# Altium footprint library KF-5.08 接线端子.PcbLib: 43 footprints (part 3 of 3)
Each footprint in its own frame and in the unit in brackets; x right, y up, seen from the top. Pads: shape width x height; smd on the part's side, far side on the other; paste and mask are expansions set on the pad; w line width, h text height; cw(c..) or ccw(c..) is an arc to the next point about the centre after c.
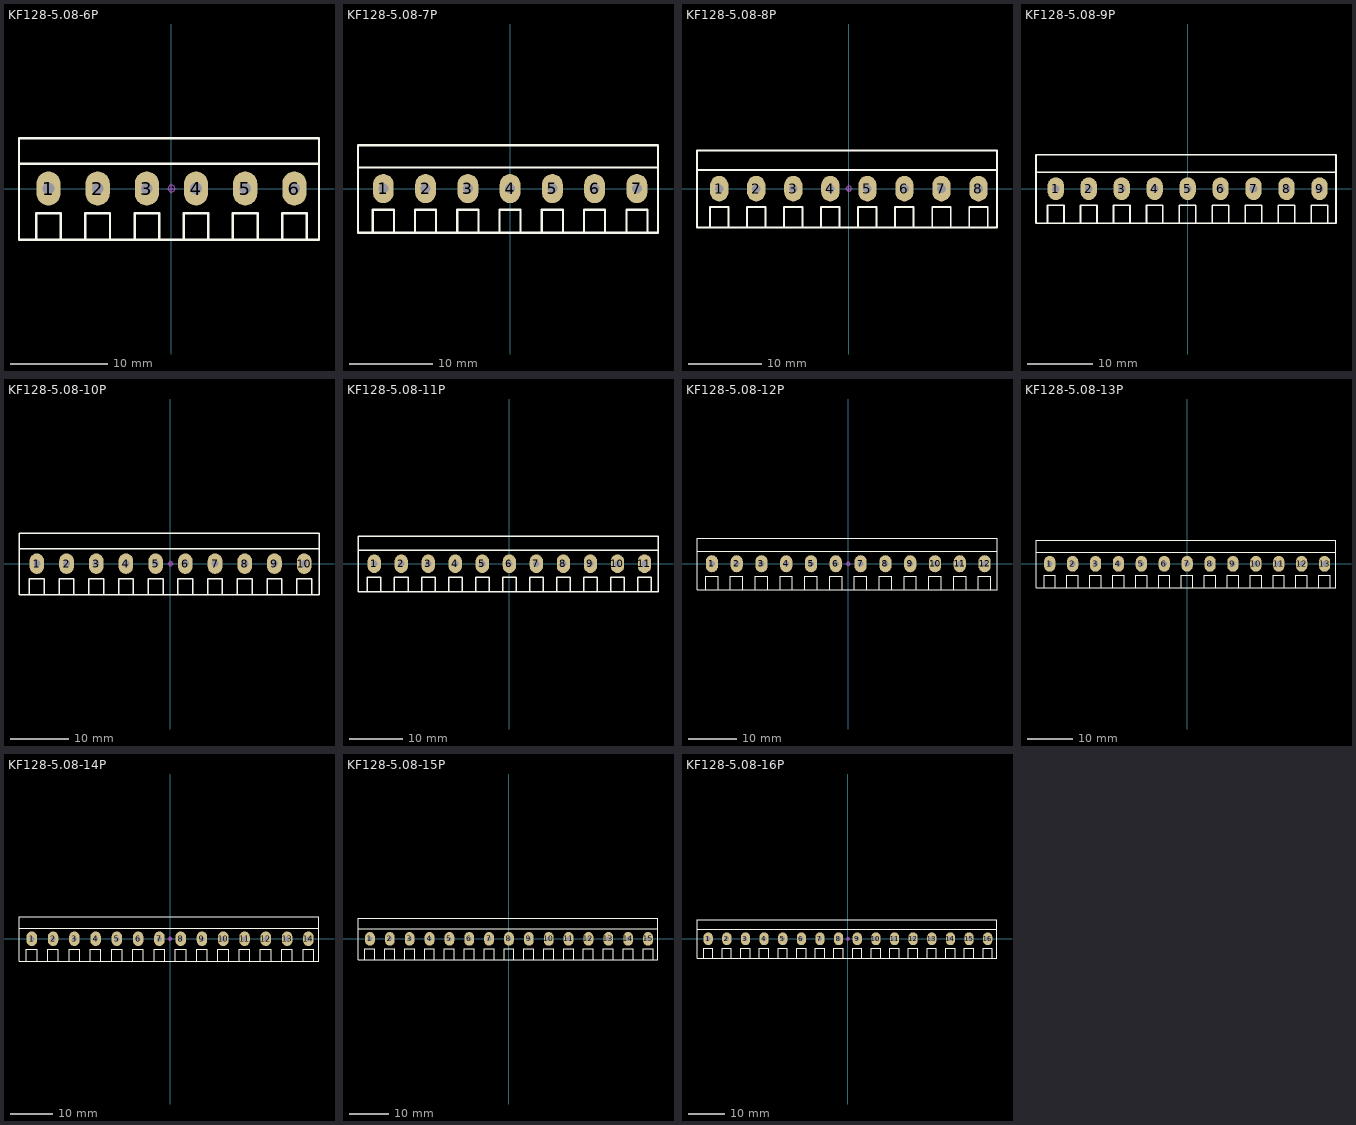
[diagram p2: the footprints below, top view; thin cyan lines are the x and y axes]

## KF128-5.08-6P [mm] "螺钉式接线端子，脚距5.08mm"
pads (6):
  oval 2.5x3.5 hole 1.2: 1(-12.7,0) 2(-7.62,0) 3(-2.54,0) 4(2.54,0) 5(7.62,0) 6(12.7,0)
Top Overlay:
  lines w0.254: -15.748,2.54 15.24,2.54 ; -13.97,-5.309 -13.97,-2.54 -11.43,-2.54 -11.43,-5.309 ; -8.89,-5.309 -8.89,-2.54 -6.35,-2.54 -6.35,-5.309 ; -3.81,-5.309 -3.81,-2.54 -1.27,-2.54 -1.27,-5.309 ; 1.27,-5.309 1.27,-2.54 3.81,-2.54 3.81,-5.309 ; 6.35,-5.309 6.35,-2.54 8.89,-2.54 8.89,-5.309 ; 11.43,-5.309 11.43,-2.54 13.97,-2.54 13.97,-5.309 ; -15.748,-5.309 15.24,-5.309 15.24,5.207 -15.748,5.207 -15.748,-5.309
Mechanical 15:
  circle w0.05: c0,0 r0.35
  lines w0.05: -0.5,0 0.5,0 ; 0,-0.5 0,0.5
3D body "KF128-5.08.STEP": height 14.15, standoff -3.95, extent 4.58,-5.3 10.16,5.2
3D body "KF128-5.08.STEP": height 14.15, standoff -3.95, extent -0.5,-5.3 5.08,5.2
3D body "KF128-5.08.STEP": height 14.15, standoff -3.95, extent -10.66,-5.3 -5.08,5.2
3D body "KF128-5.08.STEP": height 14.15, standoff -3.95, extent -15.74,-5.3 -10.16,5.2
3D body "KF128-5.08.STEP": height 14.15, standoff -3.95, extent -5.58,-5.3 0,5.2
3D body "KF128-5.08.STEP": height 14.15, standoff -3.95, extent 9.66,-5.3 15.24,5.2

## KF128-5.08-7P [mm] "螺钉式接线端子，脚距5.08mm"
pads (7):
  oval 2.5x3.5 hole 1.2: 1(-15.24,0) 2(-10.16,0) 3(-5.08,0) 4(0,0) 5(5.08,0) 6(10.16,0) 7(15.24,0)
Top Overlay:
  lines w0.254: -18.288,2.54 17.78,2.54 ; -16.51,-5.309 -16.51,-2.54 -13.97,-2.54 -13.97,-5.309 ; -11.43,-5.309 -11.43,-2.54 -8.89,-2.54 -8.89,-5.309 ; -6.35,-5.309 -6.35,-2.54 -3.81,-2.54 -3.81,-5.309 ; -1.27,-5.309 -1.27,-2.54 1.27,-2.54 1.27,-5.309 ; 3.81,-5.309 3.81,-2.54 6.35,-2.54 6.35,-5.309 ; 8.89,-5.309 8.89,-2.54 11.43,-2.54 11.43,-5.309 ; 13.97,-5.309 13.97,-2.54 16.51,-2.54 16.51,-5.309 ; -18.288,-5.309 -18.288,5.207 17.78,5.207 17.78,-5.309 -18.288,-5.309
Mechanical 15:
  circle w0.05: c0,0 r0.35
  lines w0.05: -0.5,0 0.5,0 ; 0,-0.5 0,0.5
3D body "KF128-5.08.STEP": height 14.15, standoff -3.95, extent 7.12,-5.3 12.7,5.2
3D body "KF128-5.08.STEP": height 14.15, standoff -3.95, extent -8.12,-5.3 -2.54,5.2
3D body "KF128-5.08.STEP": height 14.15, standoff -3.95, extent -18.28,-5.3 -12.7,5.2
3D body "KF128-5.08.STEP": height 14.15, standoff -3.95, extent -13.2,-5.3 -7.62,5.2
3D body "KF128-5.08.STEP": height 14.15, standoff -3.95, extent -3.04,-5.3 2.54,5.2
3D body "KF128-5.08.STEP": height 14.15, standoff -3.95, extent 2.04,-5.3 7.62,5.2
3D body "KF128-5.08.STEP": height 14.15, standoff -3.95, extent 12.2,-5.3 17.78,5.2

## KF128-5.08-8P [mm] "螺钉式接线端子，脚距5.08mm"
pads (8):
  oval 2.5x3.5 hole 1.2: 1(-17.78,0) 2(-12.7,0) 3(-7.62,0) 4(-2.54,0) 5(2.54,0) 6(7.62,0) 7(12.7,0) 8(17.78,0)
Top Overlay:
  lines w0.254: -20.828,2.54 20.32,2.54 ; -19.05,-5.309 -19.05,-2.54 -16.51,-2.54 -16.51,-5.309 ; -13.97,-5.309 -13.97,-2.54 -11.43,-2.54 -11.43,-5.309 ; -8.89,-5.309 -8.89,-2.54 -6.35,-2.54 -6.35,-5.309 ; -3.81,-5.309 -3.81,-2.54 -1.27,-2.54 -1.27,-5.309 ; 1.27,-5.309 1.27,-2.54 3.81,-2.54 3.81,-5.309 ; 6.35,-5.309 6.35,-2.54 8.89,-2.54 8.89,-5.309 ; 11.43,-5.309 11.43,-2.54 13.97,-2.54 13.97,-5.309 ; 16.51,-5.309 16.51,-2.54 19.05,-2.54 19.05,-5.309 ; -20.828,-5.309 -20.828,5.207 20.32,5.207 20.32,-5.309 -20.828,-5.309
Mechanical 15:
  circle w0.05: c0,0 r0.35
  lines w0.05: -0.5,0 0.5,0 ; 0,-0.5 0,0.5
3D body "KF128-5.08.STEP": height 14.15, standoff -3.95, extent 14.74,-5.3 20.32,5.2
3D body "KF128-5.08.STEP": height 14.15, standoff -3.95, extent 4.58,-5.3 10.16,5.2
3D body "KF128-5.08.STEP": height 14.15, standoff -3.95, extent -10.66,-5.3 -5.08,5.2
3D body "KF128-5.08.STEP": height 14.15, standoff -3.95, extent -20.82,-5.3 -15.24,5.2
3D body "KF128-5.08.STEP": height 14.15, standoff -3.95, extent -15.74,-5.3 -10.16,5.2
3D body "KF128-5.08.STEP": height 14.15, standoff -3.95, extent -5.58,-5.3 0,5.2
3D body "KF128-5.08.STEP": height 14.15, standoff -3.95, extent -0.5,-5.3 5.08,5.2
3D body "KF128-5.08.STEP": height 14.15, standoff -3.95, extent 9.66,-5.3 15.24,5.2

## KF128-5.08-9P [mm] "螺钉式接线端子，脚距5.08mm"
pads (9):
  oval 2.5x3.5 hole 1.2: 1(-20.32,0) 2(-15.24,0) 3(-10.16,0) 4(-5.08,0) 5(0,0) 6(5.08,0) 7(10.16,0) 8(15.24,0) 9(20.32,0)
Top Overlay:
  lines w0.254: -23.368,2.54 22.86,2.54 ; -21.59,-5.309 -21.59,-2.54 -19.05,-2.54 -19.05,-5.309 ; -16.51,-5.309 -16.51,-2.54 -13.97,-2.54 -13.97,-5.309 ; -11.43,-5.309 -11.43,-2.54 -8.89,-2.54 -8.89,-5.309 ; -6.35,-5.309 -6.35,-2.54 -3.81,-2.54 -3.81,-5.309 ; -1.27,-5.309 -1.27,-2.54 1.27,-2.54 1.27,-5.309 ; 3.81,-5.309 3.81,-2.54 6.35,-2.54 6.35,-5.309 ; 8.89,-5.309 8.89,-2.54 11.43,-2.54 11.43,-5.309 ; 13.97,-5.309 13.97,-2.54 16.51,-2.54 16.51,-5.309 ; 19.05,-5.309 19.05,-2.54 21.59,-2.54 21.59,-5.309 ; -23.368,-5.309 22.86,-5.309 22.86,5.207 -23.368,5.207 -23.368,-5.309
Mechanical 15:
  circle w0.05: c0,0 r0.35
  lines w0.05: -0.5,0 0.5,0 ; 0,-0.5 0,0.5
3D body "KF128-5.08.STEP": height 14.15, standoff -3.95, extent 17.28,-5.3 22.86,5.2
3D body "KF128-5.08.STEP": height 14.15, standoff -3.95, extent 7.12,-5.3 12.7,5.2
3D body "KF128-5.08.STEP": height 14.15, standoff -3.95, extent -3.04,-5.3 2.54,5.2
3D body "KF128-5.08.STEP": height 14.15, standoff -3.95, extent -8.12,-5.3 -2.54,5.2
3D body "KF128-5.08.STEP": height 14.15, standoff -3.95, extent -18.28,-5.3 -12.7,5.2
3D body "KF128-5.08.STEP": height 14.15, standoff -3.95, extent -23.36,-5.3 -17.78,5.2
3D body "KF128-5.08.STEP": height 14.15, standoff -3.95, extent -13.2,-5.3 -7.62,5.2
3D body "KF128-5.08.STEP": height 14.15, standoff -3.95, extent 2.04,-5.3 7.62,5.2
3D body "KF128-5.08.STEP": height 14.15, standoff -3.95, extent 12.2,-5.3 17.78,5.2

## KF128-5.08-10P [mm] "螺钉式接线端子，脚距5.08mm"
pads (10):
  oval 2.5x3.5 hole 1.2: 1(-22.86,0) 2(-17.78,0) 3(-12.7,0) 4(-7.62,0) 5(-2.54,0) 6(2.54,0) 7(7.62,0) 8(12.7,0) 9(17.78,0) 10(22.86,0)
Top Overlay:
  lines w0.254: -25.908,2.54 25.4,2.54 ; -24.13,-5.309 -24.13,-2.54 -21.59,-2.54 -21.59,-5.309 ; -19.05,-5.309 -19.05,-2.54 -16.51,-2.54 -16.51,-5.309 ; -13.97,-5.309 -13.97,-2.54 -11.43,-2.54 -11.43,-5.309 ; -8.89,-5.309 -8.89,-2.54 -6.35,-2.54 -6.35,-5.309 ; -3.81,-5.309 -3.81,-2.54 -1.27,-2.54 -1.27,-5.309 ; 1.27,-5.309 1.27,-2.54 3.81,-2.54 3.81,-5.309 ; 6.35,-5.309 6.35,-2.54 8.89,-2.54 8.89,-5.309 ; 11.43,-5.309 11.43,-2.54 13.97,-2.54 13.97,-5.309 ; 16.51,-5.309 16.51,-2.54 19.05,-2.54 19.05,-5.309 ; 21.59,-5.309 21.59,-2.54 24.13,-2.54 24.13,-5.309 ; -25.908,-5.309 25.4,-5.309 25.4,5.207 -25.908,5.207 -25.908,-5.309
Mechanical 15:
  circle w0.05: c0,0 r0.35
  lines w0.05: -0.5,0 0.5,0 ; 0,-0.5 0,0.5
3D body "KF128-5.08.STEP": height 14.15, standoff -3.95, extent 14.74,-5.3 20.32,5.2
3D body "KF128-5.08.STEP": height 14.15, standoff -3.95, extent 4.58,-5.3 10.16,5.2
3D body "KF128-5.08.STEP": height 14.15, standoff -3.95, extent -5.58,-5.3 0,5.2
3D body "KF128-5.08.STEP": height 14.15, standoff -3.95, extent -10.66,-5.3 -5.08,5.2
3D body "KF128-5.08.STEP": height 14.15, standoff -3.95, extent -20.82,-5.3 -15.24,5.2
3D body "KF128-5.08.STEP": height 14.15, standoff -3.95, extent -25.9,-5.3 -20.32,5.2
3D body "KF128-5.08.STEP": height 14.15, standoff -3.95, extent -15.74,-5.3 -10.16,5.2
3D body "KF128-5.08.STEP": height 14.15, standoff -3.95, extent -0.5,-5.3 5.08,5.2
3D body "KF128-5.08.STEP": height 14.15, standoff -3.95, extent 9.66,-5.3 15.24,5.2
3D body "KF128-5.08.STEP": height 14.15, standoff -3.95, extent 19.82,-5.3 25.4,5.2

## KF128-5.08-11P [mm] "螺钉式接线端子，脚距5.08mm"
pads (11):
  oval 2.5x3.5 hole 1.2: 1(-25.4,0) 2(-20.32,0) 3(-15.24,0) 4(-10.16,0) 5(-5.08,0) 6(0,0) 7(5.08,0) 8(10.16,0) 9(15.24,0) 10(20.32,0) 11(25.4,0)
Top Overlay:
  lines w0.254: -28.448,2.54 27.94,2.54 ; -26.67,-5.309 -26.67,-2.54 -24.13,-2.54 -24.13,-5.309 ; -21.59,-5.309 -21.59,-2.54 -19.05,-2.54 -19.05,-5.309 ; -16.51,-5.309 -16.51,-2.54 -13.97,-2.54 -13.97,-5.309 ; -11.43,-5.309 -11.43,-2.54 -8.89,-2.54 -8.89,-5.309 ; -6.35,-5.309 -6.35,-2.54 -3.81,-2.54 -3.81,-5.309 ; -1.27,-5.309 -1.27,-2.54 1.27,-2.54 1.27,-5.309 ; 3.81,-5.309 3.81,-2.54 6.35,-2.54 6.35,-5.309 ; 8.89,-5.309 8.89,-2.54 11.43,-2.54 11.43,-5.309 ; 13.97,-5.309 13.97,-2.54 16.51,-2.54 16.51,-5.309 ; 19.05,-5.309 19.05,-2.54 21.59,-2.54 21.59,-5.309 ; 24.13,-5.309 24.13,-2.54 26.67,-2.54 26.67,-5.309 ; -28.448,-5.309 -28.448,5.207 27.94,5.207 27.94,-5.309 -28.448,-5.309
Mechanical 15:
  circle w0.05: c0,0 r0.35
  lines w0.05: -0.5,0 0.5,0 ; 0,-0.5 0,0.5
3D body "KF128-5.08.STEP": height 14.15, standoff -3.95, extent 17.28,-5.3 22.86,5.2
3D body "KF128-5.08.STEP": height 14.15, standoff -3.95, extent 7.12,-5.3 12.7,5.2
3D body "KF128-5.08.STEP": height 14.15, standoff -3.95, extent -3.04,-5.3 2.54,5.2
3D body "KF128-5.08.STEP": height 14.15, standoff -3.95, extent -18.28,-5.3 -12.7,5.2
3D body "KF128-5.08.STEP": height 14.15, standoff -3.95, extent -28.44,-5.3 -22.86,5.2
3D body "KF128-5.08.STEP": height 14.15, standoff -3.95, extent -23.36,-5.3 -17.78,5.2
3D body "KF128-5.08.STEP": height 14.15, standoff -3.95, extent -13.2,-5.3 -7.62,5.2
3D body "KF128-5.08.STEP": height 14.15, standoff -3.95, extent -8.12,-5.3 -2.54,5.2
3D body "KF128-5.08.STEP": height 14.15, standoff -3.95, extent 2.04,-5.3 7.62,5.2
3D body "KF128-5.08.STEP": height 14.15, standoff -3.95, extent 12.2,-5.3 17.78,5.2
3D body "KF128-5.08.STEP": height 14.15, standoff -3.95, extent 22.36,-5.3 27.94,5.2

## KF128-5.08-12P [mm] "螺钉式接线端子，脚距5.08mm"
pads (12):
  oval 2.5x3.5 hole 1.2: 1(-27.94,0) 2(-22.86,0) 3(-17.78,0) 4(-12.7,0) 5(-7.62,0) 6(-2.54,0) 7(2.54,0) 8(7.62,0) 9(12.7,0) 10(17.78,0) 11(22.86,0) 12(27.94,0)
Top Overlay:
  lines w0.254: -30.988,2.54 30.48,2.54 ; -29.21,-5.309 -29.21,-2.54 -26.67,-2.54 -26.67,-5.309 ; -24.13,-5.309 -24.13,-2.54 -21.59,-2.54 -21.59,-5.309 ; -19.05,-5.309 -19.05,-2.54 -16.51,-2.54 -16.51,-5.309 ; -13.97,-5.309 -13.97,-2.54 -11.43,-2.54 -11.43,-5.309 ; -8.89,-5.309 -8.89,-2.54 -6.35,-2.54 -6.35,-5.309 ; -3.81,-5.309 -3.81,-2.54 -1.27,-2.54 -1.27,-5.309 ; 1.27,-5.309 1.27,-2.54 3.81,-2.54 3.81,-5.309 ; 6.35,-5.309 6.35,-2.54 8.89,-2.54 8.89,-5.309 ; 11.43,-5.309 11.43,-2.54 13.97,-2.54 13.97,-5.309 ; 16.51,-5.309 16.51,-2.54 19.05,-2.54 19.05,-5.309 ; 21.59,-5.309 21.59,-2.54 24.13,-2.54 24.13,-5.309 ; 26.67,-5.309 26.67,-2.54 29.21,-2.54 29.21,-5.309 ; -30.988,-5.309 -30.988,5.207 30.48,5.207 30.48,-5.309 -30.988,-5.309
Mechanical 15:
  circle w0.05: c0,0 r0.35
  lines w0.05: -0.5,0 0.5,0 ; 0,-0.5 0,0.5
3D body "KF128-5.08.STEP": height 14.15, standoff -3.95, extent 24.9,-5.3 30.48,5.2
3D body "KF128-5.08.STEP": height 14.15, standoff -3.95, extent 14.74,-5.3 20.32,5.2
3D body "KF128-5.08.STEP": height 14.15, standoff -3.95, extent 4.58,-5.3 10.16,5.2
3D body "KF128-5.08.STEP": height 14.15, standoff -3.95, extent -5.58,-5.3 0,5.2
3D body "KF128-5.08.STEP": height 14.15, standoff -3.95, extent -20.82,-5.3 -15.24,5.2
3D body "KF128-5.08.STEP": height 14.15, standoff -3.95, extent -30.98,-5.3 -25.4,5.2
3D body "KF128-5.08.STEP": height 14.15, standoff -3.95, extent -25.9,-5.3 -20.32,5.2
3D body "KF128-5.08.STEP": height 14.15, standoff -3.95, extent -15.74,-5.3 -10.16,5.2
3D body "KF128-5.08.STEP": height 14.15, standoff -3.95, extent -10.66,-5.3 -5.08,5.2
3D body "KF128-5.08.STEP": height 14.15, standoff -3.95, extent -0.5,-5.3 5.08,5.2
3D body "KF128-5.08.STEP": height 14.15, standoff -3.95, extent 9.66,-5.3 15.24,5.2
3D body "KF128-5.08.STEP": height 14.15, standoff -3.95, extent 19.82,-5.3 25.4,5.2

## KF128-5.08-13P [mm] "螺钉式接线端子，脚距5.08mm"
pads (13):
  oval 2.5x3.5 hole 1.2: 1(-30.48,0) 2(-25.4,0) 3(-20.32,0) 4(-15.24,0) 5(-10.16,0) 6(-5.08,0) 7(0,0) 8(5.08,0) 9(10.16,0) 10(15.24,0) 11(20.32,0) 12(25.4,0) 13(30.48,0)
Top Overlay:
  lines w0.254: -33.528,2.54 33.02,2.54 ; -31.75,-5.309 -31.75,-2.54 -29.21,-2.54 -29.21,-5.309 ; -26.67,-5.309 -26.67,-2.54 -24.13,-2.54 -24.13,-5.309 ; -21.59,-5.309 -21.59,-2.54 -19.05,-2.54 -19.05,-5.309 ; -16.51,-5.309 -16.51,-2.54 -13.97,-2.54 -13.97,-5.309 ; -11.43,-5.309 -11.43,-2.54 -8.89,-2.54 -8.89,-5.309 ; -6.35,-5.309 -6.35,-2.54 -3.81,-2.54 -3.81,-5.309 ; -1.27,-5.309 -1.27,-2.54 1.27,-2.54 1.27,-5.309 ; 3.81,-5.309 3.81,-2.54 6.35,-2.54 6.35,-5.309 ; 8.89,-5.309 8.89,-2.54 11.43,-2.54 11.43,-5.309 ; 13.97,-5.309 13.97,-2.54 16.51,-2.54 16.51,-5.309 ; 19.05,-5.309 19.05,-2.54 21.59,-2.54 21.59,-5.309 ; 24.13,-5.309 24.13,-2.54 26.67,-2.54 26.67,-5.309 ; 29.21,-5.309 29.21,-2.54 31.75,-2.54 31.75,-5.309 ; -33.528,-5.309 -33.528,5.207 33.02,5.207 33.02,-5.309 -33.528,-5.309
Mechanical 15:
  circle w0.05: c0,0 r0.35
  lines w0.05: -0.5,0 0.5,0 ; 0,-0.5 0,0.5
3D body "KF128-5.08.STEP": height 14.15, standoff -3.95, extent 22.36,-5.3 27.94,5.2
3D body "KF128-5.08.STEP": height 14.15, standoff -3.95, extent 12.2,-5.3 17.78,5.2
3D body "KF128-5.08.STEP": height 14.15, standoff -3.95, extent 2.04,-5.3 7.62,5.2
3D body "KF128-5.08.STEP": height 14.15, standoff -3.95, extent -8.12,-5.3 -2.54,5.2
3D body "KF128-5.08.STEP": height 14.15, standoff -3.95, extent -23.36,-5.3 -17.78,5.2
3D body "KF128-5.08.STEP": height 14.15, standoff -3.95, extent -33.52,-5.3 -27.94,5.2
3D body "KF128-5.08.STEP": height 14.15, standoff -3.95, extent -28.44,-5.3 -22.86,5.2
3D body "KF128-5.08.STEP": height 14.15, standoff -3.95, extent -18.28,-5.3 -12.7,5.2
3D body "KF128-5.08.STEP": height 14.15, standoff -3.95, extent -13.2,-5.3 -7.62,5.2
3D body "KF128-5.08.STEP": height 14.15, standoff -3.95, extent -3.04,-5.3 2.54,5.2
3D body "KF128-5.08.STEP": height 14.15, standoff -3.95, extent 7.12,-5.3 12.7,5.2
3D body "KF128-5.08.STEP": height 14.15, standoff -3.95, extent 17.28,-5.3 22.86,5.2
3D body "KF128-5.08.STEP": height 14.15, standoff -3.95, extent 27.44,-5.3 33.02,5.2

## KF128-5.08-14P [mm] "螺钉式接线端子，脚距5.08mm"
pads (14):
  oval 2.5x3.5 hole 1.2: 1(-33.02,0) 2(-27.94,0) 3(-22.86,0) 4(-17.78,0) 5(-12.7,0) 6(-7.62,0) 7(-2.54,0) 8(2.54,0) 9(7.62,0) 10(12.7,0) 11(17.78,0) 12(22.86,0) 13(27.94,0) 14(33.02,0)
Top Overlay:
  lines w0.254: -36.068,2.54 35.56,2.54 ; -34.29,-5.309 -34.29,-2.54 -31.75,-2.54 -31.75,-5.309 ; -29.21,-5.309 -29.21,-2.54 -26.67,-2.54 -26.67,-5.309 ; -24.13,-5.309 -24.13,-2.54 -21.59,-2.54 -21.59,-5.309 ; -19.05,-5.309 -19.05,-2.54 -16.51,-2.54 -16.51,-5.309 ; -13.97,-5.309 -13.97,-2.54 -11.43,-2.54 -11.43,-5.309 ; -8.89,-5.309 -8.89,-2.54 -6.35,-2.54 -6.35,-5.309 ; -3.81,-5.309 -3.81,-2.54 -1.27,-2.54 -1.27,-5.309 ; 1.27,-5.309 1.27,-2.54 3.81,-2.54 3.81,-5.309 ; 6.35,-5.309 6.35,-2.54 8.89,-2.54 8.89,-5.309 ; 11.43,-5.309 11.43,-2.54 13.97,-2.54 13.97,-5.309 ; 16.51,-5.309 16.51,-2.54 19.05,-2.54 19.05,-5.309 ; 21.59,-5.309 21.59,-2.54 24.13,-2.54 24.13,-5.309 ; 26.67,-5.309 26.67,-2.54 29.21,-2.54 29.21,-5.309 ; 31.75,-5.309 31.75,-2.54 34.29,-2.54 34.29,-5.309 ; -36.068,-5.309 35.56,-5.309 35.56,5.207 -36.068,5.207 -36.068,-5.309
Mechanical 15:
  circle w0.05: c0,0 r0.35
  lines w0.05: -0.5,0 0.5,0 ; 0,-0.5 0,0.5
3D body "KF128-5.08.STEP": height 14.15, standoff -3.95, extent 24.9,-5.3 30.48,5.2
3D body "KF128-5.08.STEP": height 14.15, standoff -3.95, extent 14.74,-5.3 20.32,5.2
3D body "KF128-5.08.STEP": height 14.15, standoff -3.95, extent 4.58,-5.3 10.16,5.2
3D body "KF128-5.08.STEP": height 14.15, standoff -3.95, extent -5.58,-5.3 0,5.2
3D body "KF128-5.08.STEP": height 14.15, standoff -3.95, extent -15.74,-5.3 -10.16,5.2
3D body "KF128-5.08.STEP": height 14.15, standoff -3.95, extent -20.82,-5.3 -15.24,5.2
3D body "KF128-5.08.STEP": height 14.15, standoff -3.95, extent -30.98,-5.3 -25.4,5.2
3D body "KF128-5.08.STEP": height 14.15, standoff -3.95, extent -36.06,-5.3 -30.48,5.2
3D body "KF128-5.08.STEP": height 14.15, standoff -3.95, extent -25.9,-5.3 -20.32,5.2
3D body "KF128-5.08.STEP": height 14.15, standoff -3.95, extent -10.66,-5.3 -5.08,5.2
3D body "KF128-5.08.STEP": height 14.15, standoff -3.95, extent -0.5,-5.3 5.08,5.2
3D body "KF128-5.08.STEP": height 14.15, standoff -3.95, extent 9.66,-5.3 15.24,5.2
3D body "KF128-5.08.STEP": height 14.15, standoff -3.95, extent 19.82,-5.3 25.4,5.2
3D body "KF128-5.08.STEP": height 14.15, standoff -3.95, extent 29.98,-5.3 35.56,5.2

## KF128-5.08-15P [mm] "螺钉式接线端子，脚距5.08mm"
pads (15):
  oval 2.5x3.5 hole 1.2: 1(-35.56,0) 2(-30.48,0) 3(-25.4,0) 4(-20.32,0) 5(-15.24,0) 6(-10.16,0) 7(-5.08,0) 8(0,0) 9(5.08,0) 10(10.16,0) 11(15.24,0) 12(20.32,0) 13(25.4,0) 14(30.48,0) 15(35.56,0)
Top Overlay:
  lines w0.254: -38.608,2.54 38.1,2.54 ; -36.83,-5.309 -36.83,-2.54 -34.29,-2.54 -34.29,-5.309 ; -31.75,-5.309 -31.75,-2.54 -29.21,-2.54 -29.21,-5.309 ; -26.67,-5.309 -26.67,-2.54 -24.13,-2.54 -24.13,-5.309 ; -21.59,-5.309 -21.59,-2.54 -19.05,-2.54 -19.05,-5.309 ; -16.51,-5.309 -16.51,-2.54 -13.97,-2.54 -13.97,-5.309 ; -11.43,-5.309 -11.43,-2.54 -8.89,-2.54 -8.89,-5.309 ; -6.35,-5.309 -6.35,-2.54 -3.81,-2.54 -3.81,-5.309 ; -1.27,-5.309 -1.27,-2.54 1.27,-2.54 1.27,-5.309 ; 3.81,-5.309 3.81,-2.54 6.35,-2.54 6.35,-5.309 ; 8.89,-5.309 8.89,-2.54 11.43,-2.54 11.43,-5.309 ; 13.97,-5.309 13.97,-2.54 16.51,-2.54 16.51,-5.309 ; 19.05,-5.309 19.05,-2.54 21.59,-2.54 21.59,-5.309 ; 24.13,-5.309 24.13,-2.54 26.67,-2.54 26.67,-5.309 ; 29.21,-5.309 29.21,-2.54 31.75,-2.54 31.75,-5.309 ; 34.29,-5.309 34.29,-2.54 36.83,-2.54 36.83,-5.309 ; -38.608,-5.309 -38.608,5.207 38.1,5.207 38.1,-5.309 -38.608,-5.309
Mechanical 15:
  circle w0.05: c0,0 r0.35
  lines w0.05: -0.5,0 0.5,0 ; 0,-0.5 0,0.5
3D body "KF128-5.08.STEP": height 14.15, standoff -3.95, extent 27.44,-5.3 33.02,5.2
3D body "KF128-5.08.STEP": height 14.15, standoff -3.95, extent 17.28,-5.3 22.86,5.2
3D body "KF128-5.08.STEP": height 14.15, standoff -3.95, extent 7.12,-5.3 12.7,5.2
3D body "KF128-5.08.STEP": height 14.15, standoff -3.95, extent -3.04,-5.3 2.54,5.2
3D body "KF128-5.08.STEP": height 14.15, standoff -3.95, extent -13.2,-5.3 -7.62,5.2
3D body "KF128-5.08.STEP": height 14.15, standoff -3.95, extent -28.44,-5.3 -22.86,5.2
3D body "KF128-5.08.STEP": height 14.15, standoff -3.95, extent -38.6,-5.3 -33.02,5.2
3D body "KF128-5.08.STEP": height 14.15, standoff -3.95, extent -33.52,-5.3 -27.94,5.2
3D body "KF128-5.08.STEP": height 14.15, standoff -3.95, extent -23.36,-5.3 -17.78,5.2
3D body "KF128-5.08.STEP": height 14.15, standoff -3.95, extent -18.28,-5.3 -12.7,5.2
3D body "KF128-5.08.STEP": height 14.15, standoff -3.95, extent -8.12,-5.3 -2.54,5.2
3D body "KF128-5.08.STEP": height 14.15, standoff -3.95, extent 2.04,-5.3 7.62,5.2
3D body "KF128-5.08.STEP": height 14.15, standoff -3.95, extent 12.2,-5.3 17.78,5.2
3D body "KF128-5.08.STEP": height 14.15, standoff -3.95, extent 22.36,-5.3 27.94,5.2
3D body "KF128-5.08.STEP": height 14.15, standoff -3.95, extent 32.52,-5.3 38.1,5.2

## KF128-5.08-16P [mm] "螺钉式接线端子，脚距5.08mm"
pads (16):
  oval 2.5x3.5 hole 1.2: 1(-38.1,0) 2(-33.02,0) 3(-27.94,0) 4(-22.86,0) 5(-17.78,0) 6(-12.7,0) 7(-7.62,0) 8(-2.54,0) 9(2.54,0) 10(7.62,0) 11(12.7,0) 12(17.78,0) 13(22.86,0) 14(27.94,0) 15(33.02,0) 16(38.1,0)
Top Overlay:
  lines w0.254: -41.148,2.54 40.64,2.54 ; -39.37,-5.309 -39.37,-2.54 -36.83,-2.54 -36.83,-5.309 ; -34.29,-5.309 -34.29,-2.54 -31.75,-2.54 -31.75,-5.309 ; -29.21,-5.309 -29.21,-2.54 -26.67,-2.54 -26.67,-5.309 ; -24.13,-5.309 -24.13,-2.54 -21.59,-2.54 -21.59,-5.309 ; -19.05,-5.309 -19.05,-2.54 -16.51,-2.54 -16.51,-5.309 ; -13.97,-5.309 -13.97,-2.54 -11.43,-2.54 -11.43,-5.309 ; -8.89,-5.309 -8.89,-2.54 -6.35,-2.54 -6.35,-5.309 ; -3.81,-5.309 -3.81,-2.54 -1.27,-2.54 -1.27,-5.309 ; 1.27,-5.309 1.27,-2.54 3.81,-2.54 3.81,-5.309 ; 6.35,-5.309 6.35,-2.54 8.89,-2.54 8.89,-5.309 ; 11.43,-5.309 11.43,-2.54 13.97,-2.54 13.97,-5.309 ; 16.51,-5.309 16.51,-2.54 19.05,-2.54 19.05,-5.309 ; 21.59,-5.309 21.59,-2.54 24.13,-2.54 24.13,-5.309 ; 26.67,-5.309 26.67,-2.54 29.21,-2.54 29.21,-5.309 ; 31.75,-5.309 31.75,-2.54 34.29,-2.54 34.29,-5.309 ; 36.83,-5.309 36.83,-2.54 39.37,-2.54 39.37,-5.309 ; -41.148,-5.309 -41.148,5.207 40.64,5.207 40.64,-5.309 -41.148,-5.309
Mechanical 15:
  circle w0.05: c0,0 r0.35
  lines w0.05: -0.5,0 0.5,0 ; 0,-0.5 0,0.5
3D body "KF128-5.08.STEP": height 14.15, standoff -3.95, extent 35.06,-5.3 40.64,5.2
3D body "KF128-5.08.STEP": height 14.15, standoff -3.95, extent 24.9,-5.3 30.48,5.2
3D body "KF128-5.08.STEP": height 14.15, standoff -3.95, extent 14.74,-5.3 20.32,5.2
3D body "KF128-5.08.STEP": height 14.15, standoff -3.95, extent 4.58,-5.3 10.16,5.2
3D body "KF128-5.08.STEP": height 14.15, standoff -3.95, extent -5.58,-5.3 0,5.2
3D body "KF128-5.08.STEP": height 14.15, standoff -3.95, extent -15.74,-5.3 -10.16,5.2
3D body "KF128-5.08.STEP": height 14.15, standoff -3.95, extent -30.98,-5.3 -25.4,5.2
3D body "KF128-5.08.STEP": height 14.15, standoff -3.95, extent -41.14,-5.3 -35.56,5.2
3D body "KF128-5.08.STEP": height 14.15, standoff -3.95, extent -36.06,-5.3 -30.48,5.2
3D body "KF128-5.08.STEP": height 14.15, standoff -3.95, extent -25.9,-5.3 -20.32,5.2
3D body "KF128-5.08.STEP": height 14.15, standoff -3.95, extent -20.82,-5.3 -15.24,5.2
3D body "KF128-5.08.STEP": height 14.15, standoff -3.95, extent -10.66,-5.3 -5.08,5.2
3D body "KF128-5.08.STEP": height 14.15, standoff -3.95, extent -0.5,-5.3 5.08,5.2
3D body "KF128-5.08.STEP": height 14.15, standoff -3.95, extent 9.66,-5.3 15.24,5.2
3D body "KF128-5.08.STEP": height 14.15, standoff -3.95, extent 19.82,-5.3 25.4,5.2
3D body "KF128-5.08.STEP": height 14.15, standoff -3.95, extent 29.98,-5.3 35.56,5.2